# Altium schematic symbol library ADS.SchLib: 3 symbols
Pins are listed as number, name and electrical type; pins without a type are passive.

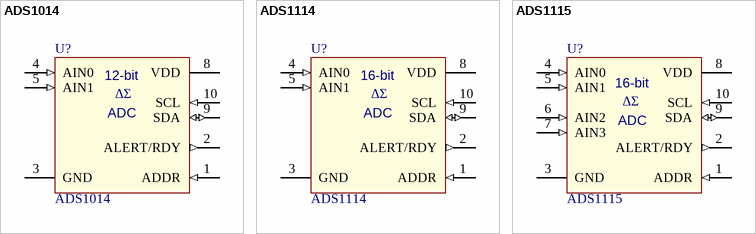
[diagram p0: symbols ADS1014 to ADS1115]

## ADS1014
designator U?
Ultra-Small, Low-Power, I2C-Compatible, 3.3kSPS, 12-Bit ADCs / With Internal Reference, Oscillator, and Programmable Comparator; value: ADS1114
footprint VSSOP-10 (VSSOP, 10-Leads, Body 3.00x3.00mm, Pitch 0.50mm, IPC Medium Density)
pins: 1 ADDR (in), 2 ALERT/RDY (out), 3 GND (power), 4 AIN0 (in), 5 AIN1 (in), 8 VDD (power), 9 SDA (io), 10 SCL (in)
text: 12-bit; ΔΣ; ADC

## ADS1114
designator U?
ADS111x Ultra-Small, Low-Power, I2C-Compatible, 860-SPS, 16-Bit ADCs; value: ADS1114
footprint VSSOP-10 (VSSOP, 10-Leads, Body 3.00x3.00mm, Pitch 0.50mm, IPC Medium Density)
pins: 1 ADDR (in), 2 ALERT/RDY (out), 3 GND (power), 4 AIN0 (in), 5 AIN1 (in), 8 VDD (power), 9 SDA (io), 10 SCL (in)
text: 16-bit; ΔΣ; ADC

## ADS1115
designator U?
ADS111x Ultra-Small, Low-Power, I2C-Compatible, 860-SPS, 16-Bit ADCs; value: ADS1115
footprint VSSOP-10 (VSSOP, 10-Leads, Body 3.00x3.00mm, Pitch 0.50mm, IPC Medium Density)
pins: 1 ADDR (in), 2 ALERT/RDY (out), 3 GND (power), 4 AIN0 (in), 5 AIN1 (in), 6 AIN2 (in), 7 AIN3 (in), 8 VDD (power), 9 SDA (io), 10 SCL (in)
text: 16-bit; ΔΣ; ADC